# Altium schematic symbol library MAX12931FASA+.SchLib: 1 symbol
Pins are listed as number, name and electrical type; pins without a type are passive.

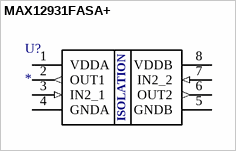
[diagram p0: symbol MAX12931FASA+]

## MAX12931FASA+
designator U?
Undefined or Miscellaneous; Manufacturer_Name: Maxim Integrated; Manufacturer_Part_Number: MAX12931BASA+; Datasheet Link: https://componentsearchengine.com/Datasheets/1/MAX12931BASA+.pdf; Height: 1.75mm; Mouser Part Number: 700-MAX12931BASA+; Mouser Price/Stock: https://www.mouser.com/Search/Refine.aspx?Keyword=700-MAX12931BASA%2B; RS Part Number: 1645076; RS Price/Stock: http://uk.rs-online.com/web/p/products/1645076
footprint MAXSOIC127P600X175-8N
pins: 1 VDDA (power), 2 OUT1 (out), 3 IN2_1 (in), 4 GNDA (power), 5 GNDB (power), 6 OUT2 (out), 7 IN2_2 (in), 8 VDDB (power)
text: ISOLATION